# Altium schematic symbol library ADR280ARTZ.SchLib: 1 symbol
Pins are listed as number, name and electrical type; pins without a type are passive.

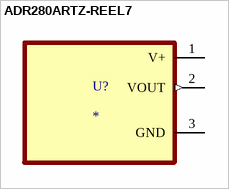
[diagram p0: symbol ADR280ARTZ-REEL7]

## ADR280ARTZ-REEL7
designator U?
MF: {'manufacturer': u'Analog Devices'}; MP: ADR280ARTZ-REEL7; Availability: Unavailable; Package: None; Price: None; Value: *
footprint SOT96P237X112-3N
pins: 1 V+ (power), 2 VOUT (out), 3 GND (power)